# EAGLE library part BIGBIT (library bigbits)
BigBit completo Male entra o Sinal Female sai o Sinal Esquerda --> Direita
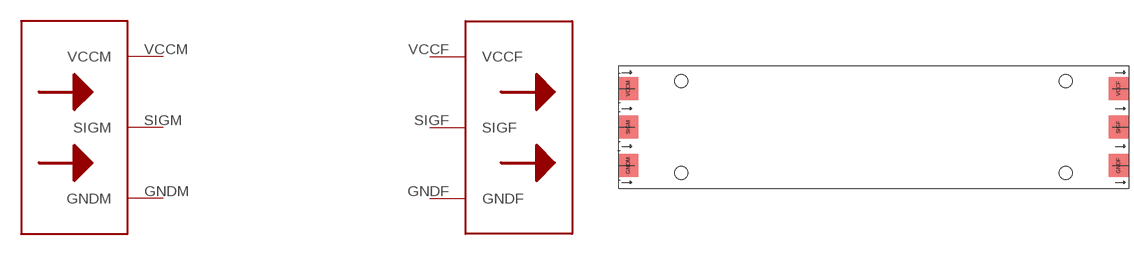
[diagram p0: symbol with the pads of BIGBIT; footprint BIGBIT]

Designator prefix -; gates G$1=BITF G$2=BITM

## BIGBIT  [BIGBIT]
GNDF  G$1:GNDF
GNDM  G$2:GNDM
SIGF  G$1:SIGF
SIGM  G$2:SIGM
VCCF  G$1:VCCF
VCCM  G$2:VCCM

## Footprint BIGBIT (pad centres in mm)
smd 6 x 7: GNDF 152,-30.38; GNDM 3,-30.38; SIGF 152,-18.64; SIGM 3,-18.64; VCCF 152,-6.89; VCCM 3,-6.89
hole 4 at 135.9,-4.64
hole 4 at 135.9,-32.639
hole 4 at 19.1,-4.64
hole 4 at 19.1,-32.639